# Altium schematic symbol library Fuse.SchLib: 4 symbols
Pins are listed as number, name and electrical type; pins without a type are passive.

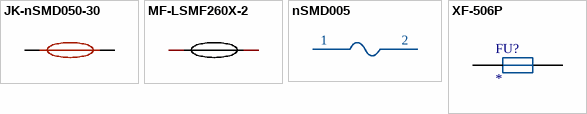
[diagram p0: symbols JK-nSMD050-30 to XF-506P]

## JK-nSMD050-30
designator F??  (value not drawn)
C720075; Manufacturer: JK(金科); Symbol: JK-NSMD050-30V; Add into BOM: yes; Operating Voltage (Max): 30V; Current Rating (Max): 100A; Hold Current: 500mA; Trip Current: 1A; Power Dissipation: 600mW; Resistance - Initial (Ri) (Min): 150mΩ; Resistance - Post Trip (R1) (Max): 300mΩ; Maximum Time to Trip: 100ms; Name: JK-nSMD050-30; Device: JK-nSMD050-30; LCSC Part Name: 30V 500mA 1206自恢复; Supplier Part: C720075; Manufacturer Part: JK-nSMD050-30; Supplier Footprint: 1206; JLCPCB Part Class: Extended Part; Datasheet: https://atta.szlcsc.com/upload/public/pdf/source/20200810/C720075_06AF2D4541537091880CC35F0EFB49F8.pdf; Supplier: LCSC; Convert to PCB: yes; Operating Temperature: -40℃~+85℃
footprint F1206
3D model F1206_L3.2-W1.7-H0.6
pins: 1, 2

## MF-LSMF260X-2
designator U??  (value not drawn)
C913192 自恢复保险丝; Manufacturer: BOURNS; Add into BOM: yes; Operating Voltage (Max): 24V; Current Rating (Max): 20A; Hold Current: 2.6A; Trip Current: 5.2A; Resistance - Initial (Ri) (Min): 75mΩ; Resistance - Post Trip (R1) (Max): 20mΩ; Maximum Time to Trip: 5s; Symbol: MF-LSMF260X-2; Device: MF-LSMF260X-2; Supplier: LCSC; Supplier Part: C913192; Manufacturer Part: MF-LSMF260X-2; JLCPCB Part Class: Extended Part; LCSC Part Name: MF-LSMF260X-2; Supplier Footprint: SMD2920; Datasheet: https://atta.szlcsc.com/upload/public/pdf/source/20240116/58FF0ACC0390416B3330E655B44B9433.pdf; Convert to PCB: yes; Operating Temperature: -40℃~+85℃
footprint F2920
pins: 1, 2

## nSMD005
designator F??  (value not drawn)
Manufacturer: 台湾陆海; Add into BOM: yes; Operating Voltage (Max): 60V; Current Rating (Max): 100A; Hold Current: 50mA; Trip Current: 150mA; Name: nSMD005; Symbol: nSMD005; Device: nSMD005; LCSC Part Name: 60V 50mA 1206自恢复; Supplier Part: C70064; Manufacturer Part: nSMD005; Supplier Footprint: 1206; JLCPCB Part Class: Extended Part; Datasheet: https://atta.szlcsc.com/upload/public/pdf/source/20160331/1459396375944.pdf; Supplier: LCSC; Convert to PCB: yes
footprint F1206
3D model F1206_L3.2-W1.7-H0.6
pins: 1, 2

## XF-506P
designator FU?
小型汽车插片保险丝座
footprint XF-506P (for-automotivefuse-mini)
pins: 1, 2